# Altium footprint library texas_instruments.PcbLib: 28 footprints (part 2 of 2)
Each footprint in its own frame and in the unit in brackets; x right, y up, seen from the top. Pads: shape width x height; smd on the part's side, far side on the other; paste and mask are expansions set on the pad; w line width, h text height; cw(c..) or ccw(c..) is an arc to the next point about the centre after c.
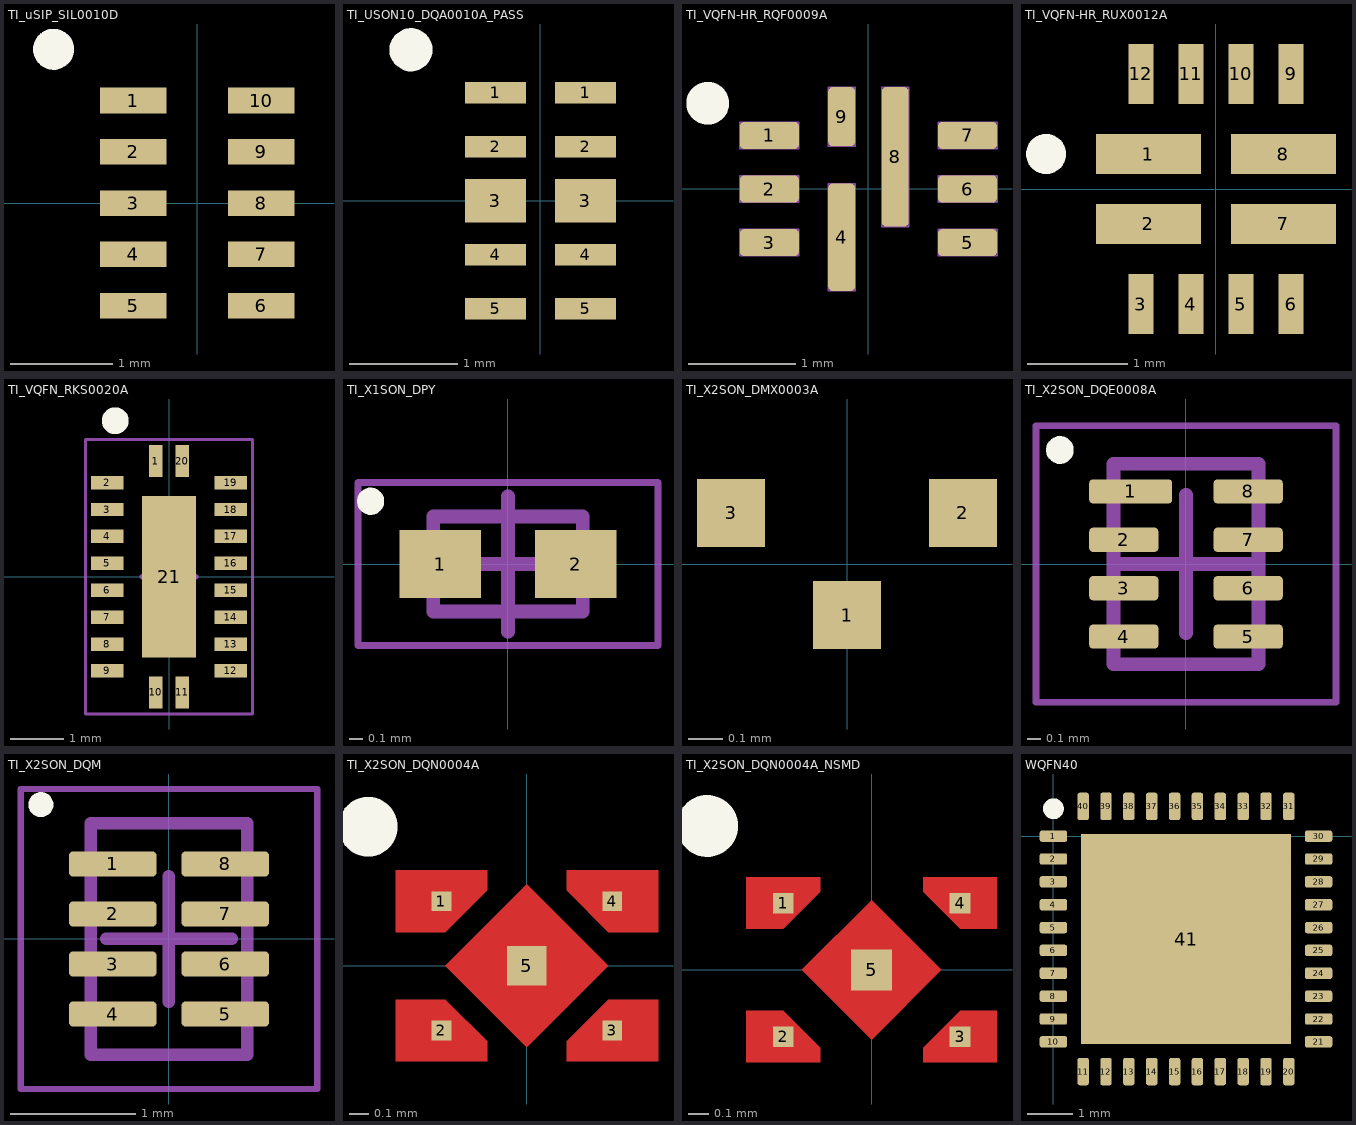
[diagram p1: the footprints below, top view; thin cyan lines are the x and y axes]

## TI_uSIP_SIL0010D [mm]
pads (10):
  rect 0.65x0.25 smd: 1(-0.625,1) 2(-0.625,0.5) 3(-0.625,0) 4(-0.625,-0.5) 5(-0.625,-1) 6(0.625,-1) 7(0.625,-0.5) 8(0.625,0) 9(0.625,0.5) 10(0.625,1)
Top Overlay:
  circle w0.2: c-1.4,1.5 r0.1
3D body: height 0.8, standoff 0.3, extent -0.625,-1 0.625,1
3D body: height 0.3, standoff 0, extent -1.05,-1.3 1.05,1.3
3D body: height 0.31, standoff 0.3, extent -0.949,1 -0.75,1.2

## TI_USON10_DQA0010A_PASS [mm]
pads (10):
  rect 0.565x0.2 smd: 1(-0.417,1) 1(0.417,1) 2(-0.417,0.5) 2(0.417,0.5) 4(-0.417,-0.5) 4(0.417,-0.5) 5(-0.417,-1) 5(0.417,-1)
  rect 0.565x0.4 smd: 3(-0.417,0) 3(0.417,0)
Top Overlay:
  circle w0.2: c-1.2,1.4 r0.1
3D body "TI_USON10_DQA0010A.STEP": height 0.55, standoff 0, extent -0.5,-1.25 0.5,1.25

## TI_VQFN-HR_RQF0009A [mm]
pads (9):
  rrect30% 0.55x0.25 smd: 1(-0.925,0.5) 2(-0.925,0) 3(-0.925,-0.5) 5(0.925,-0.5) 6(0.925,0) 7(0.925,0.5)
  rrect30% 0.25x1 smd: 4(-0.25,-0.45)
  rrect30% 0.25x1.3 smd: 8(0.25,0.3)
  rrect30% 0.25x0.55 smd: 9(-0.25,0.675)
Top Overlay:
  circle w0.2: c-1.5,0.8 r0.1
Mechanical 15:
  lines w0.013: -1.2,-0.625 -1.2,-0.375 ; -1.2,-0.625 -0.65,-0.375 ; -1.2,-0.625 -0.65,-0.625 ; -1.2,-0.375 -0.65,-0.375 ; -1.2,-0.375 -0.65,-0.625 ; -1.2,-0.125 -1.2,0.125 ; -1.2,-0.125 -0.65,0.125 ; -1.2,-0.125 -0.65,-0.125 ; -1.2,0.125 -0.65,0.125 ; -1.2,0.125 -0.65,-0.125 ; -1.2,0.375 -1.2,0.625 ; -1.2,0.375 -0.65,0.625 ; -1.2,0.375 -0.65,0.375 ; -1.2,0.625 -0.65,0.625 ; -1.2,0.625 -0.65,0.375 ; -0.65,-0.625 -0.65,-0.375 ; -0.65,-0.125 -0.65,0.125 ; -0.65,0.375 -0.65,0.625 ; -0.375,-0.95 -0.125,0.05 ; -0.375,-0.95 -0.375,0.05 ; -0.375,-0.95 -0.125,-0.95 ; -0.375,0.05 -0.125,0.05 ; -0.375,0.05 -0.125,-0.95 ; -0.375,0.4 -0.125,0.95 ; -0.375,0.4 -0.375,0.95 ; -0.375,0.4 -0.125,0.4 ; -0.375,0.95 -0.125,0.95 ; -0.375,0.95 -0.125,0.4 ; -0.125,-0.95 -0.125,0.05 ; -0.125,0.4 -0.125,0.95 ; 0.125,-0.35 0.375,0.95 ; 0.125,-0.35 0.125,0.95 ; 0.125,-0.35 0.375,-0.35 ; 0.125,0.95 0.375,0.95 ; 0.125,0.95 0.375,-0.35 ; 0.375,-0.35 0.375,0.95 ; 0.65,-0.625 1.2,-0.375 ; 0.65,-0.625 0.65,-0.375 ; 0.65,-0.625 1.2,-0.625 ; 0.65,-0.375 1.2,-0.375 ; 0.65,-0.375 1.2,-0.625 ; 0.65,-0.125 1.2,0.125 ; 0.65,-0.125 0.65,0.125 ; 0.65,-0.125 1.2,-0.125 ; 0.65,0.125 1.2,0.125 ; 0.65,0.125 1.2,-0.125 ; 0.65,0.375 1.2,0.625 ; 0.65,0.375 0.65,0.625 ; 0.65,0.375 1.2,0.375 ; 0.65,0.625 1.2,0.625 ; 0.65,0.625 1.2,0.375 ; 1.2,-0.625 1.2,-0.375 ; 1.2,-0.125 1.2,0.125 ; 1.2,0.375 1.2,0.625
3D body "RQF0009A.stp": height 1, standoff 0, extent -1,-0.75 1,0.75

## TI_VQFN-HR_RUX0012A [mm]
pads (12):
  rect 1.05x0.4 smd: 1(-0.675,0.35) 2(-0.675,-0.35) 7(0.675,-0.35) 8(0.675,0.35)
  rect 0.25x0.6 smd: 3(-0.75,-1.15) 4(-0.25,-1.15) 5(0.25,-1.15) 6(0.75,-1.15) 9(0.75,1.15) 10(0.25,1.15) 11(-0.25,1.15) 12(-0.75,1.15)
Top Overlay:
  circle w0.2: c-1.7,0.35 r0.1
3D body "TI_VQFN-HR_RUX0012A.stp": height 1, standoff 0, extent -1,-1.25 1,1.25

## TI_VQFN_RKS0020A [mm] "PQFN, 20-Leads, Body 2,50x4,50mm, Pitch 0,50mm, Thermal Pad 1,00x3,00mm, IPC Medium Density"
height 1
pads (21):
  rect 0.25x0.6 smd: 1(-0.25,2.15) 10(-0.25,-2.15) 11(0.25,-2.15) 20(0.25,2.15)
  rect 0.6x0.25 smd: 2(-1.15,1.75) 3(-1.15,1.25) 4(-1.15,0.75) 5(-1.15,0.25) 6(-1.15,-0.25) 7(-1.15,-0.75) 8(-1.15,-1.25) 9(-1.15,-1.75) 12(1.15,-1.75) 13(1.15,-1.25) 14(1.15,-0.75) 15(1.15,-0.25) 16(1.15,0.25) 17(1.15,0.75) 18(1.15,1.25) 19(1.15,1.75)
  rect 1x3 smd: 21(0,0)
Top Overlay:
  circle w0.25: c-1,2.9 r0.125
Mechanical 15:
  lines w0.05: -1.55,-2.55 1.55,-2.55 1.55,2.55 -1.55,2.55 -1.55,-2.55
  lines w0.1: -0.5,0 0.5,0 ; 0,-0.5 0,0.5
3D body "PQFN50P250X450X100_HS-21N.step": height 1, standoff 0, extent -1.3,-2.3 1.3,2.3

## TI_X1SON_DPY [mm] "SON, 2-Leads, Body 0,60x1,00mm, Pitch 0,65mm, IPC Medium Density"
height 0.45
pads (2):
  rect 0.6x0.5 smd: 1(-0.5,0) 2(0.5,0)
Top Overlay:
  circle w0.1: c-1.012,0.462 r0.05
Top 3D Body:
  lines w0.1: -0.55,-0.35 0.55,-0.35 0.55,0.35 -0.55,0.35 -0.55,-0.35
Mechanical 15:
  lines w0.05: -1.105,-0.6 1.105,-0.6 1.105,0.6 -1.105,0.6 -1.105,-0.6
  lines w0.1: -0.5,0 0.5,0 ; 0,-0.5 0,0.5
3D body "TI_DPY_X1SON.step": height 0.45, standoff 0, extent -0.55,-0.35 0.55,0.35

## TI_X2SON_DMX0003A [mm]
pads (3):
  rect 0.2x0.2 smd: 1(0,-0.15) 2(0.34,0.15) 3(-0.34,0.15)
3D body: height 0.4, standoff 0, extent -0.5,-0.3 0.5,0.3

## TI_X2SON_DQE0008A [mm] "SON, 8-Leads, Body 1,40x1,00mm, Pitch 0,35mm, IPC Medium Density"
height 0.4
pads (8):
  rrect30% 0.6x0.175 smd: 1(-0.4,0.525)
  rrect30% 0.5x0.175 smd: 2(-0.45,0.175) 3(-0.45,-0.175) 4(-0.45,-0.525) 5(0.45,-0.525) 6(0.45,-0.175) 7(0.45,0.175) 8(0.45,0.525)
Top Overlay:
  circle w0.1: c-0.912,0.825 r0.05
Top 3D Body:
  lines w0.1: -0.525,-0.725 -0.525,0.725 0.525,0.725 0.525,-0.725 -0.525,-0.725
Mechanical 15:
  lines w0.05: -1.085,-1 -1.085,1 1.085,1 1.085,-1 -1.085,-1
  lines w0.1: -0.5,0 0.5,0 ; 0,-0.5 0,0.5
3D body "TI_X2SON_DQE0008A.step": height 0.4, standoff 0, extent -0.526,-0.725 0.526,0.725

## TI_X2SON_DQM [mm] "SON, 8-Leads, Body 1,80x1,20mm, Pitch 0,40mm, IPC Medium Density"
height 0.4
pads (8):
  rrect30% 0.7x0.2 smd: 1(-0.45,0.6) 2(-0.45,0.2) 3(-0.45,-0.2) 4(-0.45,-0.6) 5(0.45,-0.6) 6(0.45,-0.2) 7(0.45,0.2) 8(0.45,0.6)
Top Overlay:
  circle w0.1: c-1.025,1.075 r0.05
Top 3D Body:
  lines w0.1: -0.625,-0.925 0.625,-0.925 0.625,0.925 -0.625,0.925 -0.625,-0.925
Mechanical 15:
  lines w0.05: -1.185,-1.2 1.185,-1.2 1.185,1.2 -1.185,1.2 -1.185,-1.2
  lines w0.1: -0.5,0 0.5,0 ; 0,-0.5 0,0.5
3D body "TI_X2SON_DQM.step": height 0.4, standoff 0, extent -0.626,-0.925 0.626,0.925

## TI_X2SON_DQN0004A [mm]
pads (5):
  rect 0.1x0.1 smd paste+0 mask+0: 1(-0.43,0.325) 2(-0.43,-0.325) 3(0.43,-0.325) 4(0.43,0.325)
  rect 0.2x0.2 smd paste+0 mask+0: 5(0,0)
Top Layer:
  region: 0,0.41 -0.41,0 0,-0.41 0.41,0
  region: 0.66,0.48 0.2,0.48 0.2,0.38 0.41,0.17 0.66,0.17
  region: -0.66,-0.48 -0.2,-0.48 -0.2,-0.38 -0.41,-0.17 -0.66,-0.17
  region: 0.66,-0.48 0.2,-0.48 0.2,-0.38 0.41,-0.17 0.66,-0.17
  region: -0.66,0.48 -0.2,0.48 -0.2,0.38 -0.41,0.17 -0.66,0.17
Top Overlay:
  circle w0.2: c-0.8,0.7 r0.05
Top Paste:
  region: -0.65,0.43 -0.25,0.43 -0.25,0.4 -0.43,0.22 -0.65,0.22
  region: 0.65,-0.43 0.25,-0.43 0.25,-0.4 0.43,-0.22 0.65,-0.22
  region: -0.65,-0.43 -0.25,-0.43 -0.25,-0.4 -0.43,-0.22 -0.65,-0.22
  region: 0.65,0.43 0.25,0.43 0.25,0.4 0.43,0.22 0.65,0.22
  region: 0,0.318 -0.318,0 0,-0.318 0.318,0
Top Solder:
  region: 0,0.339 -0.339,0 0,-0.339 0.339,0
  region: -0.61,-0.43 -0.25,-0.43 -0.25,-0.4 -0.43,-0.22 -0.61,-0.22
  region: 0.61,0.43 0.25,0.43 0.25,0.4 0.43,0.22 0.61,0.22
  region: 0.61,-0.43 0.25,-0.43 0.25,-0.4 0.43,-0.22 0.61,-0.22
  region: -0.61,0.43 -0.25,0.43 -0.25,0.4 -0.43,0.22 -0.61,0.22
3D body "DQN0004A.stp": height 0.34, standoff -0.02, extent -0.5,-0.5 0.5,0.5

## TI_X2SON_DQN0004A_NSMD [mm]
pads (5):
  rect 0.1x0.1 smd paste+0 mask+0: 1(-0.43,0.325) 2(-0.43,-0.325) 3(0.43,-0.325) 4(0.43,0.325)
  rect 0.2x0.2 smd paste+0 mask+0: 5(0,0)
Top Layer:
  region: 0.61,0.45 0.25,0.45 0.25,0.38 0.43,0.2 0.61,0.2
  region: -0.61,-0.45 -0.25,-0.45 -0.25,-0.38 -0.43,-0.2 -0.61,-0.2
  region: 0.61,-0.45 0.25,-0.45 0.25,-0.38 0.43,-0.2 0.61,-0.2
  region: -0.61,0.45 -0.25,0.45 -0.25,0.38 -0.43,0.2 -0.61,0.2
  region: 0,0.339 -0.339,0 0,-0.339 0.339,0
Top Overlay:
  circle w0.2: c-0.8,0.7 r0.05
Top Paste:
  region: 0,0.318 -0.318,0 0,-0.318 0.318,0
3D body "DQN0004A.stp": height 0.37, standoff 0.01, extent -0.5,-0.5 0.5,0.5

## WQFN40 [mm]
pads (41):
  rrect40% 0.6x0.25 smd: 1(0,0) 2(0,-0.5) 3(0,-1) 4(0,-1.5) 5(0,-2) 6(0,-2.5) 7(0,-3) 8(0,-3.5) 9(0,-4) 10(0,-4.5) 21(5.8,-4.5) 22(5.8,-4) 23(5.8,-3.5) 24(5.8,-3) 25(5.8,-2.5) 26(5.8,-2) 27(5.8,-1.5) 28(5.8,-1) 29(5.8,-0.5) 30(5.8,0)
  rrect40% 0.25x0.6 smd: 11(0.65,-5.15) 12(1.15,-5.15) 13(1.65,-5.15) 14(2.15,-5.15) 15(2.65,-5.15) 16(3.15,-5.15) 17(3.65,-5.15) 18(4.15,-5.15) 19(4.65,-5.15) 20(5.15,-5.15) 31(5.15,0.65) 32(4.65,0.65) 33(4.15,0.65) 34(3.65,0.65) 35(3.15,0.65) 36(2.65,0.65) 37(2.15,0.65) 38(1.65,0.65) 39(1.15,0.65) 40(0.65,0.65)
  rect 4.6x4.6 smd: 41(2.9,-2.25)
Top Overlay:
  circle w0.254: c0,0.6 r0.1
3D body: height 0.8, standoff 0, extent -0.1,-5.25 5.9,0.75
3D body: height 0.81, standoff 0.8, extent 0.3,-0.249 0.898,0.349